# Altium footprint library lighthouse_sensor.PcbLib: 7 footprints
Each footprint in its own frame and in the unit in brackets; x right, y up, seen from the top. Pads: shape width x height; smd on the part's side, far side on the other; paste and mask are expansions set on the pad; w line width, h text height; cw(c..) or ccw(c..) is an arc to the next point about the centre after c.
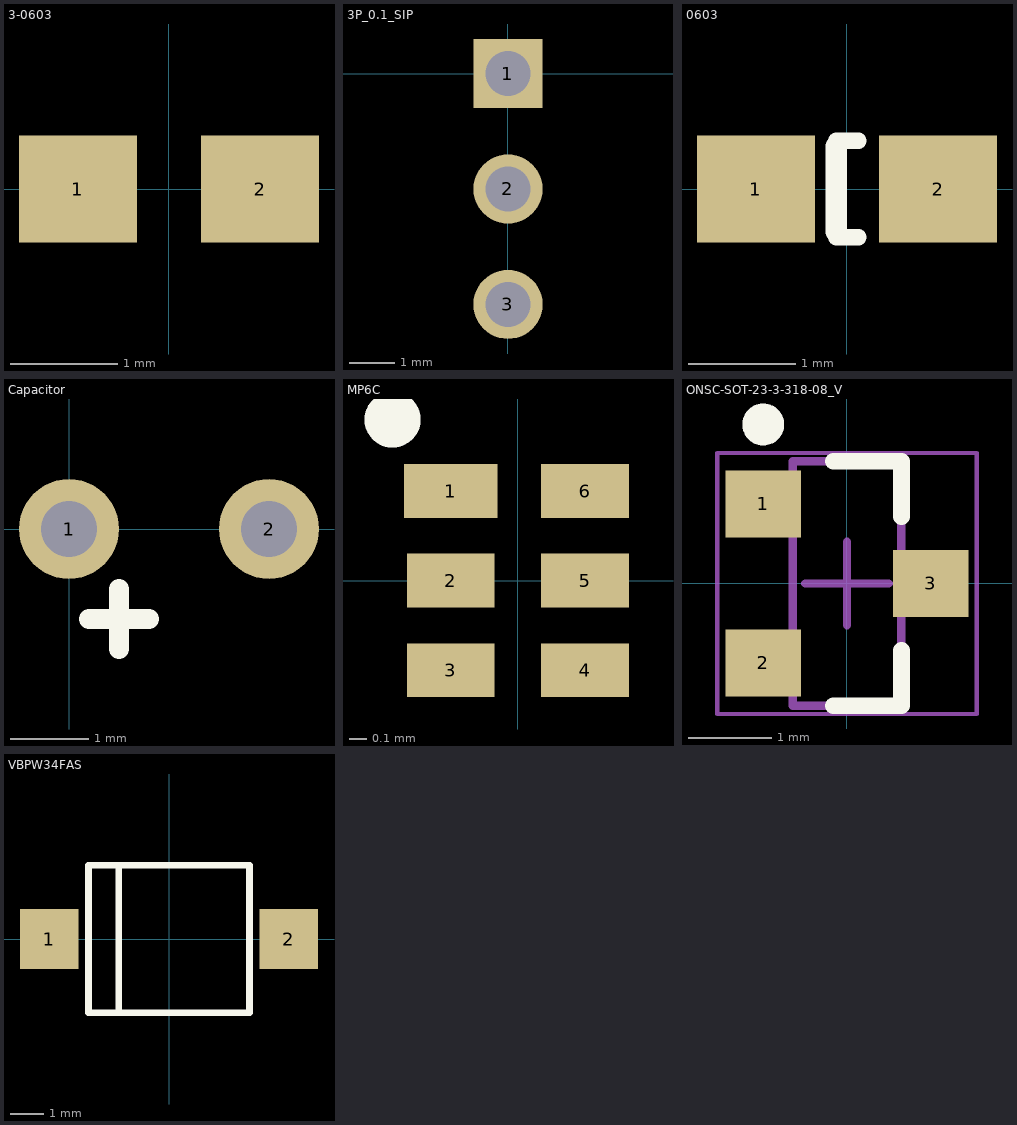
[diagram p0: the footprints below, top view; thin cyan lines are the x and y axes]

## 3-0603 [mm] "Chip Resistor; Body 1.6 x 0.9 mm (LxW typ)"
height 0.55
pads (2):
  rect 1.1x1 smd: 1(-0.85,0) 2(0.85,0)

## 3P_0.1_SIP [mil]
pads (3):
  rect 60x60 hole 39: 1(0,0)
  round 60 hole 39: 2(0,-100) 3(0,-200)

## 0603 [mm] "Chip Capacitor; Body 1.6 x 0.8 mm (LxW typ)"
height 0.87
pads (2):
  rect 1.1x1 smd: 1(-0.85,0) 2(0.85,0)
Top Overlay:
  lines w0.152: -0.1,-0.451 0.108,-0.451 ; -0.1,0.451 0.108,0.451
  lines w0.2: -0.1,-0.4 -0.1,0.4

## Capacitor [mil]
pads (2):
  round 50 hole 28: 1(0,0) 2(100,0)
Top Overlay:
  lines w10: 10,-45 40,-45 ; 25,-60 25,-30

## MP6C [mm]
pads (6):
  rect 0.52x0.3 smd: 1(-0.375,0.5)
  rect 0.49x0.3 smd: 2(-0.375,0) 3(-0.375,-0.5) 4(0.375,-0.5) 5(0.375,0) 6(0.375,0.5)
Top Overlay:
  circle w0.254: c-0.7,0.9 r0.03

## ONSC-SOT-23-3-318-08_V [mm] "SOT23, 3-Leads, Body 2.92x1.3mm, Pitch 0.95mm"
height 1.11
pads (3):
  rect 0.9x0.8 smd: 1(-1,0.95) 2(-1,-0.95) 3(1,0)
Top Overlay:
  circle w0.25: c-1,1.9 r0.125
  lines w0.2: -0.165,-1.46 0.65,-1.46 0.65,-0.8 ; -0.165,1.46 0.65,1.46 0.65,0.8
Mechanical 13:
  lines w0.1: -0.65,-1.46 -0.65,1.46 0.65,1.46 0.65,-1.46 -0.65,-1.46
Mechanical 15:
  lines w0.05: -1.55,-1.56 -1.55,1.56 1.55,1.56 1.55,-1.56 -1.55,-1.56
  lines w0.1: -0.5,0 0.5,0 ; 0,-0.5 0,0.5
3D body: height 1.11, standoff 0.01, extent -0.65,-1.46 0.65,1.46

## VBPW34FAS [mm]
pads (2):
  rect 1.75x1.8 smd: 1(-3.575,0) 2(3.575,0)
Top Overlay:
  lines w0.2: -1.5,-2.2 -1.5,2.2 ; -2.4,-2.2 2.4,-2.2 2.4,2.2 -2.4,2.2 -2.4,-2.2